# Altium schematic symbol library R-CRCW06031K00FKEA.Schlib: 1 symbol
Pins are listed as number, name and electrical type; pins without a type are passive.

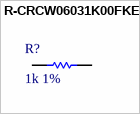
[diagram p0: symbol R-CRCW06031K00FKEA]

## R-CRCW06031K00FKEA
designator R?, comment 1k 1%
Thick Film Resistors - SMD 1/10watt 1.0Kohms 1%
pins: 1, 2